# Altium schematic symbol library PTS526SM15SMTR2LFS.SchLib: 2 symbols
Pins are listed as number, name and electrical type; pins without a type are passive.

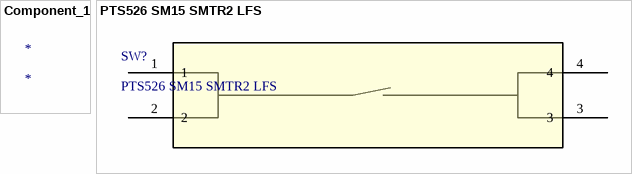
[diagram p0: symbols Component_1 to PTS526 SM15 SMTR2 LFS]

## Component_1
designator *

## PTS526 SM15 SMTR2 LFS
designator SW?
No Description Available; Mfr_Name: C&K Components; Copyright: Copyright (C) 2023 Ultra Librarian. All rights reserved.; Manufacturer_Part_Number: PTS526 SM15 SMTR2 LFS; Digi-Key_Part_Number_1: CKN12220-2-ND; Digi-Key_Part_Number_2: CKN12220-1-ND; Digi-Key_Part_Number_3: CKN12220-6-ND; RefDes: RefDes; Type: DEV
footprint SON4_PTS526 SM15 SMTR2 LFS_CNK
pins: 1, 2, 3, 4